# Altium schematic symbol library WCAP-SISC.SchLib: 2 symbols
Pins are listed as number, name and electrical type; pins without a type are passive.

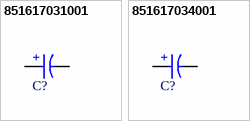
[diagram p0: symbols 851617031001 to 851617034001]

## 851617031001
designator C?, comment 100F  (value not drawn)
WCAP-SISC Supercapacitors (EDLCs), THT, D22 x H45mm, 100F, 2.7VDC; Manufacturer Part Number: 851617031001; Manufacturer: Wurth Elektronik; Capacitance Tolerance: -10% / +30%; Discharge Current Max: 61.3A; Energy Density: 4.8Wh/kg; ESR (AC): 9mΩ; ESR (DC): 12mΩ; Leakage Current: 0.55mA; Pitch: 10mm; Power Density: 7.23kW/kg; Rated Discharge Current: 21.7A; Rated Voltage (DC): 2.7V; Category: Super Capacitors (EDLCs); Match Code: WCAP-SISC; ComponentLink1Description: Website Link; ComponentLink1URL: https://www.we-online.com/redexpert/article/851617031001?ad; ComponentLink2Description: Datasheet Link; ComponentLink2URL: https://www.we-online.com/redexpert/spec/851617031001?ad; Mount: Through Hole; Operating Temperature Max: 65°C; Operating Temperature Min: -40°C; Packaging: Carton; Height: 45mm; Diameter: 22mm; Capacitance: 100F; Life Cycle: 500000Cycles
footprint WCAP-SISC_D22H45
simulation model 851617031001_100F
pins: 1 P, 2 N
text: +

## 851617034001
designator C?, comment 350F  (value not drawn)
WCAP-SISC Supercapacitors (EDLCs), THT, D35 x H61mm, 350F, 2.7VDC; Manufacturer Part Number: 851617034001; Manufacturer: Wurth Elektronik; Capacitance Tolerance: -10% / +30%; Discharge Current Max: 212A; Energy Density: 5.4Wh/kg; ESR (AC): 3.2mΩ; ESR (DC): 3.5mΩ; Leakage Current: 1.5mA; Pitch: 24.3mm; Power Density: 8.01kW/kg; Rated Discharge Current: 75A; Rated Voltage (DC): 2.7V; Category: Super Capacitors (EDLCs); Match Code: WCAP-SISC; ComponentLink1Description: Website Link; ComponentLink1URL: https://www.we-online.com/redexpert/article/851617034001?ad; ComponentLink2Description: Datasheet Link; ComponentLink2URL: https://www.we-online.com/redexpert/spec/851617034001?ad; Mount: Through Hole; Operating Temperature Max: 65°C; Operating Temperature Min: -40°C; Packaging: Carton; Height: 61mm; Diameter: 35mm; Capacitance: 350F; Life Cycle: 500000Cycles
footprint WCAP-SISC_D35H61
simulation model 851617034001_350F
pins: 1 P, 2 N
text: +